# Altium integrated library Diodes SMD - General Purpose.IntLib: 2 symbols
Pins are listed as number, name and electrical type; pins without a type are passive.

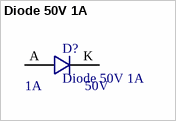
[diagram p0: symbol Diode 50V 1A]

## Diode 50V 1A
designator D?  Output Current: 1A  Voltage: 50V
DIODES - GENERAL PURPOSE 50V 1A 1.1V @ 1A SMA(DO-214AC) ROHS; Manufacturer: Diodes Incorporated; MFR.Part #: S1A-13-F; ComponentLink1Description: Datasheet; ComponentLink1URL: https://datasheet.lcsc.com/szlcsc/Diodes-Incorporated-S1A-13-F_C150735.pdf; LCSC Part #: C150735; Package: SMA,DO-214AC
footprint PCBComponent_1
pins: A, K


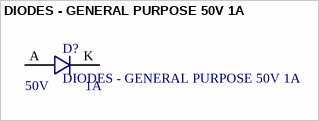
[diagram p1: symbol DIODES - GENERAL PURPOSE 50V 1A]

## DIODES - GENERAL PURPOSE 50V 1A
designator D?  Output Current: 1A  Voltage: 50V
DIODES - GENERAL PURPOSE 50V 1A 1.1V @ 1A SOD-123F ROHS; Manufacturer: Shikues; MFR.Part #: SK4001WA; LCSC Part #: C183406; Package: SOD-123; ComponentLink1Description: Datasheet; ComponentLink1URL: https://datasheet.lcsc.com/szlcsc/SK-SK4001WA_C183406.pdf
footprint PCBComponent_1
pins: A, K